# EAGLE library part NCP5662DS33R4G (library sjg-power)
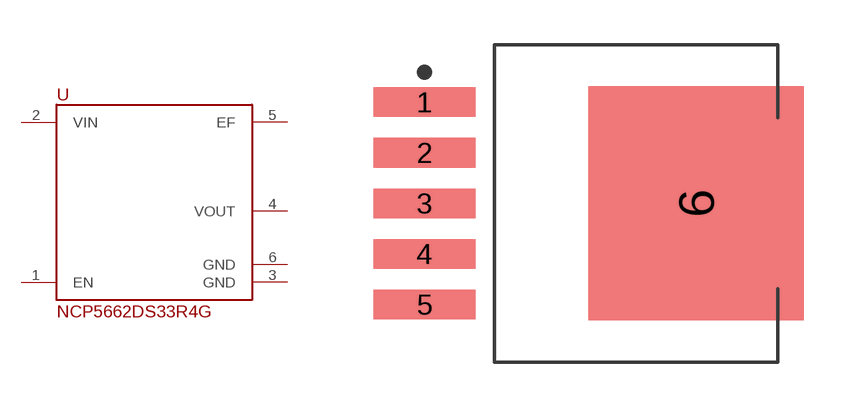
[diagram p4: symbol with the pads of TO170P1420X457-6; footprint TO170P1420X457-6]

Designator prefix -

## NCP5662DS33R4G  [TO170P1420X457-6]
1  EN
2  VIN
3  GND
4  VOUT
5  EF
6  GND

## Footprint TO170P1420X457-6 (pad centres in mm)
6-TO, DPAK, 1.70 mm pitch, 14.20 mm span, 10.16 X 8.89 X 4.57 mm body 6-pin TO, DPAK package with 1.70 mm pitch, 14.20 mm span with body size 10.16 X 8.89 X 4.57 mm
smd 3.44 x 0.994: 1 -6.369,3.4; 2 -6.369,1.7; 3 -6.369,0; 4 -6.369,-1.7; 5 -6.369,-3.4
smd 7.246 x 7.874: 6 2.767,0